# EAGLE library part OV8825-ECON (library Neel)
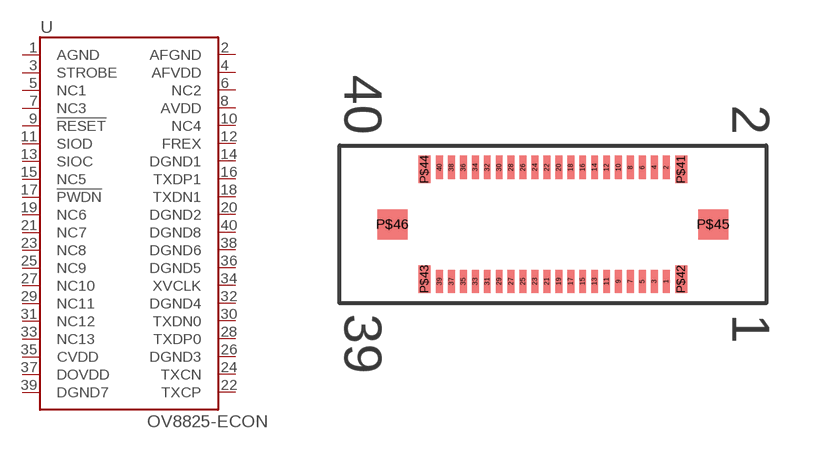
[diagram p76: symbol with the pads of FX12B-40P-0.4SV; footprint FX12B-40P-0.4SV]

Designator prefix -

## OV8825-ECON  [FX12B-40P-0.4SV]
1  AGND
2  AFGND
3  STROBE
4  AFVDD
5  NC1
6  NC2
7  NC3
8  AVDD
9  !RESET
10  NC4
11  SIOD
12  FREX
13  SIOC
14  DGND1
15  NC5
16  TXDP1
17  !PWDN
18  TXDN1
19  NC6
20  DGND2
21  NC7
22  TXCP
23  NC8
24  TXCN
25  NC9
26  DGND3
27  NC10
28  TXDP0
29  NC11
30  TXDN0
31  NC12
32  DGND4
33  NC13
34  XVCLK
35  CVDD
36  DGND5
37  DOVDD
38  DGND6
39  DGND7
40  DGND8

## Footprint FX12B-40P-0.4SV (pad centres in mm)
smd 0.23 x 0.78: 1 3.8,-1.91; 2 3.8,1.91; 3 3.4,-1.91; 4 3.4,1.91; 5 3,-1.91; 6 3,1.91; 7 2.6,-1.91; 8 2.6,1.91; 9 2.2,-1.91; 10 2.2,1.91; 11 1.8,-1.91; 12 1.8,1.91; 13 1.4,-1.91; 14 1.4,1.91; 15 1,-1.91; 16 1,1.91; 17 0.6,-1.91; 18 0.6,1.91; 19 0.2,-1.91; 20 0.2,1.91; 21 -0.2,-1.91; 22 -0.2,1.91; 23 -0.6,-1.91; 24 -0.6,1.91; 25 -1,-1.91; 26 -1,1.91; 27 -1.4,-1.91; 28 -1.4,1.91; 29 -1.8,-1.91; 30 -1.8,1.91; 31 -2.2,-1.91; 32 -2.2,1.91; 33 -2.6,-1.91; 34 -2.6,1.91; 35 -3,-1.91; 36 -3,1.91; 37 -3.4,-1.91; 38 -3.4,1.91; 39 -3.8,-1.91; 40 -3.8,1.91
smd 0.4 x 0.92: P$41 4.3,1.84; P$42 4.3,-1.84; P$43 -4.3,-1.84; P$44 -4.3,1.84
smd 1 x 1: P$45 5.375,0; P$46 -5.375,0